# EAGLE library part 74HC74D,653 (library 74HC74D_653)
Dual D-type flip-flop Source: Datasheet <https://assets.nexperia.com/documents/data-sheet/74HC_HCT74.pdf>
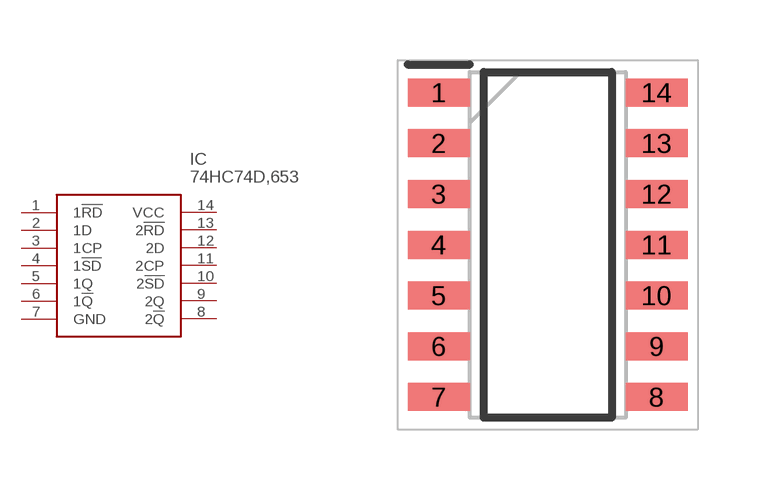
[diagram p0: symbol with the pads of SOIC127P600X175-14N; footprint SOIC127P600X175-14N]

Designator prefix IC

## 74HC74D,653 (Description: Dual D-type flip-flop; Height: 1.75mm; Manufacturer_Name: Nexperia; Manufacturer_Part_Number: 74HC74D,653; Mouser_Part_Number: 771-74HC74D-T; Mouser_Price-Stock: https://www.mouser.co.uk/ProductDetail/Nexperia/74HC74D653?qs=P62ublwmbi8VnJ1KG1%2FblQ%3D%3D)  [SOIC127P600X175-14N]
1  1!RD
2  1D
3  1CP
4  1!SD
5  1Q
6  1!Q
7  GND
8  2!Q
9  2Q
10  2!SD
11  2CP
12  2D
13  2!RD
14  VCC

## Footprint SOIC127P600X175-14N (pad centres in mm)
SO14 (SOT108-1)
smd 1.55 x 0.7: 1 -2.725,3.81; 2 -2.725,2.54; 3 -2.725,1.27; 4 -2.725,0; 5 -2.725,-1.27; 6 -2.725,-2.54; 7 -2.725,-3.81; 8 2.725,-3.81; 9 2.725,-2.54; 10 2.725,-1.27; 11 2.725,0; 12 2.725,1.27; 13 2.725,2.54; 14 2.725,3.81